# EAGLE library part MCP23017T-E/SS (library KVB-ICs)
I/O Expander 16 I²C 1.7MHz 28-SSOP
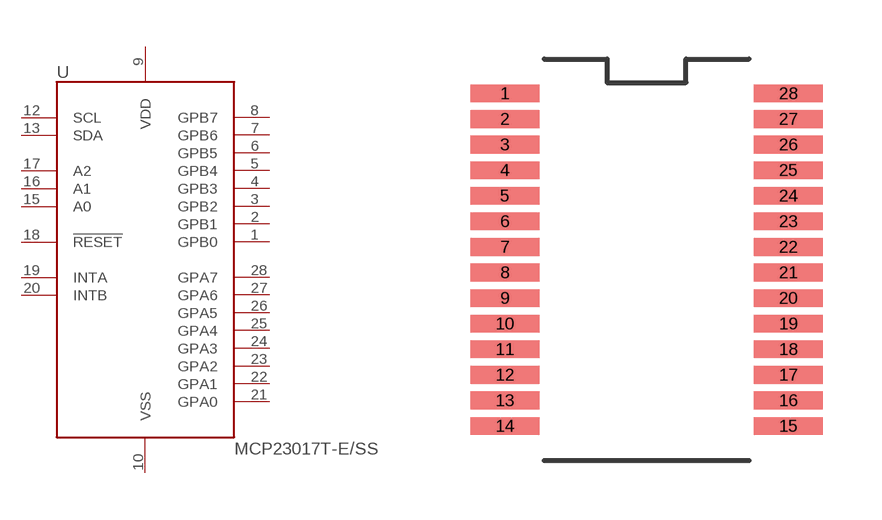
[diagram p0: symbol with the pads of MCP23017T-E/SS; footprint MCP23017T-E/SS]

Designator prefix U

## MCP23017T-E/SS (MAN-PART_NUM: MCP23017T-E/SS; MANUFACTURER: Microchip Technology)  [MCP23017T-E/SS]
1  GPB0
2  GPB1
3  GPB2
4  GPB3
5  GPB4
6  GPB5
7  GPB6
8  GPB7
9  VDD
10  VSS
12  SCL
13  SDA
15  A0
16  A1
17  A2
18  !RESET
19  INTA
20  INTB
21  GPA0
22  GPA1
23  GPA2
24  GPA3
25  GPA4
26  GPA5
27  GPA6
28  GPA7

## Footprint MCP23017T-E/SS (pad centres in mm)
smd 1.75 x 0.45: 1 -3.6,4.225; 2 -3.6,3.575; 3 -3.6,2.925; 4 -3.6,2.275; 5 -3.6,1.625; 6 -3.6,0.975; 7 -3.6,0.325; 8 -3.6,-0.325; 9 -3.6,-0.975; 10 -3.6,-1.625; 11 -3.6,-2.275; 12 -3.6,-2.925; 13 -3.6,-3.575; 14 -3.6,-4.225; 15 3.6,-4.225; 16 3.6,-3.575; 17 3.6,-2.925; 18 3.6,-2.275; 19 3.6,-1.625; 20 3.6,-0.975; 21 3.6,-0.325; 22 3.6,0.325; 23 3.6,0.975; 24 3.6,1.625; 25 3.6,2.275; 26 3.6,2.925; 27 3.6,3.575; 28 3.6,4.225